# Altium schematic symbol library LCD1602_SCHEMATIC.SchLib: 1 symbol
Pins are listed as number, name and electrical type; pins without a type are passive.

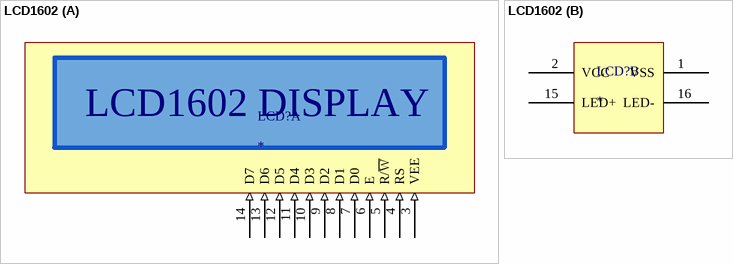
[diagram p0: symbol LCD1602]

## LCD1602
designator LCD?
DISPLAY CONSTRUCTION: 16 Characters * 2 Lines; DISPLAY MODE: TN/STN; DISPLAY TYPE: Positive Transflective; BACKLIGHT: LED; VIEWING DIRECTION: 6 o'clock; DRIVING VOLTAGE: Single power; DRIVING METHOD: 1/16 duty,1/5 bias; NUMBER OF DATA LINE: 8-bit parallel; CONNECTOR: Pin / ZEBRA; DRIVER IC: KS0066 (compatible with HD44780); INTERFACE: Parallel; BACKLIGHT COLOR: GREEN/BLUE; CHARACTER COLOR: White; CHARACTER SET: ASCII; OPERATING TEMPERATURE: Indoor; TYPE: COB (Chip On Board); DIMENSION: 80 * 36 * 12.5; ComponentLink1Description: Hshop (Green Backlight); ComponentLink1URL: https://hshop.vn/products/lcd-text-lcd1602-xanh-lo; ComponentLink2Description: Hshop (Blue Backlight); ComponentLink2URL: https://hshop.vn/products/lcd-text-lcd1602-xanh-duong; ComponentLink3Description: Datasheet; ComponentLink3URL: https://www.waveshare.com/datasheet/LCD_en_PDF/LCD1602.pdf
footprint PCBComponent_1
part A pins: 3 VEE (in), 4 RS (in), 5 R/~{W} (in), 6 E (in), 7 D0 (in), 8 D1 (in), 9 D2 (in), 10 D3 (in), 11 D4 (in), 12 D5 (in), 13 D6 (in), 14 D7 (in)
part B pins: 1 VSS, 2 VCC, 15 LED+, 16 LED-
part A text: LCD1602 DISPLAY